# Altium footprint library Components - 11.11.25 - 11.58.PcbLib: 1 footprints
Each footprint in its own frame and in the unit in brackets; x right, y up, seen from the top. Pads: shape width x height; smd on the part's side, far side on the other; paste and mask are expansions set on the pad; w line width, h text height; cw(c..) or ccw(c..) is an arc to the next point about the centre after c.
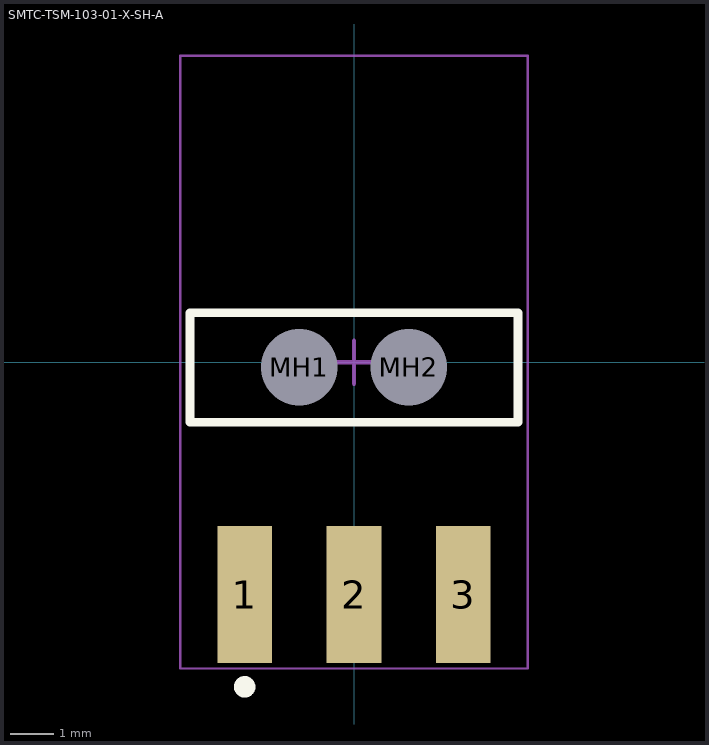
[diagram p0: the footprint, top view; thin cyan lines are the x and y axes]

## SMTC-TSM-103-01-X-SH-A [mm] "Terminal Strip Single Surface Mount, 1x3 Pins, Horizontal, 2.54mm Pitch, Male"
height 3.05
pads (5):
  rect 1.27x3.18 smd: 1(-2.54,-5.402) 2(0,-5.402) 3(2.54,-5.402)
  round 1.48 hole 1.78 unplated: MH1(-1.27,-0.122) MH2(1.27,-0.122)
Top Overlay:
  circle w0.25: c-2.54,-7.542 r0.125
  lines w0.2: -3.81,-1.392 -3.81,1.148 3.81,1.148 3.81,-1.392 -3.81,-1.392
Mechanical 13:
  lines w0.1: -3.81,-1.392 -3.81,1.148 3.81,1.148 3.81,-1.392 -3.81,-1.392
Mechanical 15:
  lines w0.05: -4.035,-7.117 4.035,-7.117 4.035,7.117 -4.035,7.117 -4.035,-7.117
  lines w0.1: -0.5,0 0.5,0 ; 0,-0.5 0,0.5
3D body "TSM-103-01-X-SH-A.step": height 3.05, standoff -1.4, extent -3.81,-5.962 3.81,6.992